# EAGLE library part AS222-92LF (library skyworks_solutions)
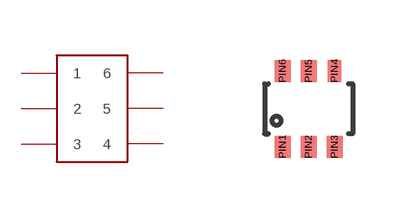
[diagram p0: symbol with the pads of AS222-92LF; footprint AS222-92LF]

Designator prefix -

## AS222-92LF  [AS222-92LF]
PIN1  1
PIN2  2
PIN3  3
PIN4  4
PIN5  5
PIN6  6

## Footprint AS222-92LF (pad centres in mm)
smd 0.4 x 0.55: PIN1 -0.65,-0.95; PIN2 0,-0.95; PIN3 0.65,-0.95; PIN5 0,0.95; PIN6 -0.65,0.95
smd 0.34 x 0.55: PIN4 0.65,0.95